# Altium schematic symbol library LD39200PU33R.SchLib: 1 symbol
Pins are listed as number, name and electrical type; pins without a type are passive.

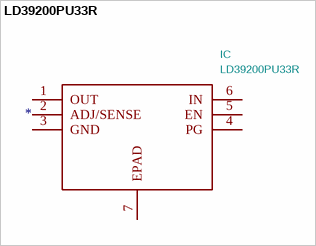
[diagram p0: symbol LD39200PU33R]

## LD39200PU33R
designator IC  value LD39200PU33R
LDO Voltage Regulators 2 A high PSRR ultra low drop linear regulator with reverse current protection; Manufacturer_Name: STMicroelectronics; Footprint: SON95P300X300X100-7N-D; Supplier: https://www.st.com/resource/en/datasheet/ld39200.pdf; Description_: LDO Voltage Regulators 2 A high PSRR ultra low drop linear regulator with reverse current protection; Height: 1; Manufacturer_Part_Number: LD39200PU33R; Mouser Part Number: 511-LD39200PU33R; Mouser Price/Stock: https://www.mouser.com/Search/Refine.aspx?Keyword=511-LD39200PU33R
footprint SON95P300X300X100-7N-D
pins: 1 OUT, 2 ADJ/SENSE, 3 GND, 4 PG, 5 EN, 6 IN, 7 EPAD